# Altium schematic symbol library 691 338 500 0xx.SchLib: 6 symbols
Pins are listed as number, name and electrical type; pins without a type are passive.

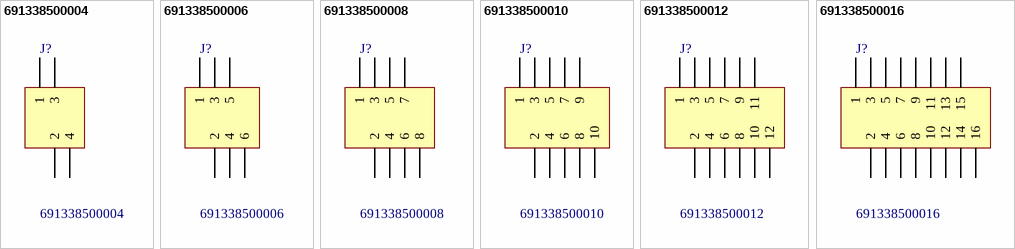
[diagram p0: symbols 691338500004 to 691338500016]

## 691338500004
designator J?
WR-TBL Terminal Blocks Serie 3385 - 5.08 mm; Manufacturer: Würth Elektronik eiSos GmbH; ComponentLink1 Description: Manufacturer; ComponentLink2 Description: Datasheet; NoPins: 04; Created Date: 25 March 2014; partNo: 691338500004; ComponentLink1URL: http://www.we-online.com; ComponentLink2URL: http://katalog.we-online.de/em/datasheet/6913385000xx.pdf; Created by: Karrer Zheng; Value: 691338500004
footprint 691338500004 (5,08mm - PCB - Dual row - Staggered - Vertical - Open - 04p)
pins: 1, 2, 3, 4

## 691338500006
designator J?
WR-TBL Terminal Blocks Serie 3385 - 5.08 mm; Manufacturer: Würth Elektronik eiSos GmbH; ComponentLink1 Description: Manufacturer; ComponentLink2 Description: Datasheet; NoPins: 06; Created Date: 25 March 2014; partNo: 691338500006; ComponentLink1URL: http://www.we-online.com; ComponentLink2URL: http://katalog.we-online.de/em/datasheet/6913385000xx.pdf; Created by: Karrer Zheng; Value: 691338500006
footprint 691338500006 (5,08mm - PCB - Dual row - Staggered - Vertical - Open - 06p)
pins: 1, 2, 3, 4, 5, 6

## 691338500008
designator J?
WR-TBL Terminal Blocks Serie 3385 - 5.08 mm; Manufacturer: Würth Elektronik eiSos GmbH; ComponentLink1 Description: Manufacturer; ComponentLink2 Description: Datasheet; NoPins: 08; Created Date: 25 March 2014; partNo: 691338500008; ComponentLink1URL: http://www.we-online.com; ComponentLink2URL: http://katalog.we-online.de/em/datasheet/6913385000xx.pdf; Created by: Karrer Zheng; Value: 691338500008
footprint 691338500008 (5,08mm - PCB - Dual row - Staggered - Vertical - Open - 08p)
pins: 1, 2, 3, 4, 5, 6, 7, 8

## 691338500010
designator J?
WR-TBL Terminal Blocks Serie 3385 - 5.08 mm; Manufacturer: Würth Elektronik eiSos GmbH; ComponentLink1 Description: Manufacturer; ComponentLink2 Description: Datasheet; NoPins: 10; Created Date: 25 March 2014; partNo: 691338500010; ComponentLink1URL: http://www.we-online.com; ComponentLink2URL: http://katalog.we-online.de/em/datasheet/6913385000xx.pdf; Created by: Karrer Zheng; Value: 691338500010
footprint 691338500010 (5,08mm - PCB - Dual row - Staggered - Vertical - Open - 10p)
pins: 1, 2, 3, 4, 5, 6, 7, 8, 9, 10

## 691338500012
designator J?
WR-TBL Terminal Blocks Serie 3385 - 5.08 mm; Manufacturer: Würth Elektronik eiSos GmbH; ComponentLink1 Description: Manufacturer; ComponentLink2 Description: Datasheet; NoPins: 12; Created Date: 25 March 2014; partNo: 691338500012; ComponentLink1URL: http://www.we-online.com; ComponentLink2URL: http://katalog.we-online.de/em/datasheet/6913385000xx.pdf; Created by: Karrer Zheng; Value: 691338500012
footprint 691338500012 (5,08mm - PCB - Dual row - Staggered - Vertical - Open - 12p)
pins: 1, 2, 3, 4, 5, 6, 7, 8, 9, 10, 11, 12

## 691338500016
designator J?
WR-TBL Terminal Blocks Serie 3385 - 5.08 mm; Manufacturer: Würth Elektronik eiSos GmbH; ComponentLink1 Description: Manufacturer; ComponentLink2 Description: Datasheet; NoPins: 16; Created Date: 25 March 2014; partNo: 691338500016; ComponentLink1URL: http://www.we-online.com; ComponentLink2URL: http://katalog.we-online.de/em/datasheet/6913385000xx.pdf; Created by: Karrer Zheng; Value: 691338500016
footprint 691338500016 (5,08mm - PCB - Dual row - Staggered - Vertical - Open - 16p)
pins: 1, 2, 3, 4, 5, 6, 7, 8, 9, 10, 11, 12, 13, 14, 15, 16